# Altium footprint library Supernova Diodes.PcbLib: 50 footprints (part 4 of 4)
Each footprint in its own frame and in the unit in brackets; x right, y up, seen from the top. Pads: shape width x height; smd on the part's side, far side on the other; paste and mask are expansions set on the pad; w line width, h text height; cw(c..) or ccw(c..) is an arc to the next point about the centre after c.
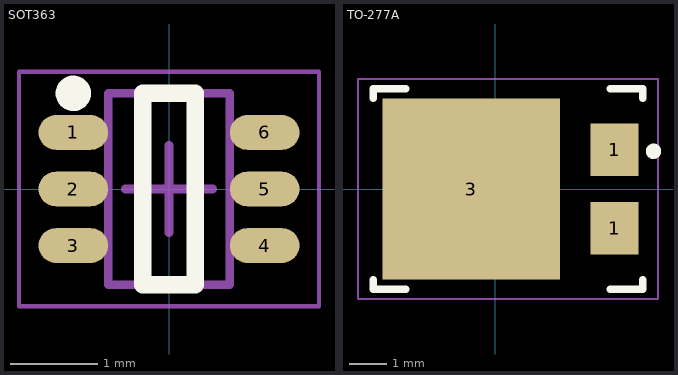
[diagram p3: the footprints below, top view; thin cyan lines are the x and y axes]

## SOT363 [mm] "TSOP, 6-Leads, Body 2.00x1.25mm, Pitch 0.65mm, IPC Medium Density"
height 1.1
pads (6):
  oval 0.8x0.4 smd mask+0.025: 1(-1.1,0.65) 2(-1.1,0) 3(-1.1,-0.65) 4(1.1,-0.65) 5(1.1,0) 6(1.1,0.65)
Top Overlay:
  circle w0.203: c-1.1,1.1 r0.102
  lines w0.2: -0.3,-1.1 0.3,-1.1 0.3,1.1 -0.3,1.1 -0.3,-1.1
Top 3D Body (Mech13):
  lines w0.1: -0.7,-1.1 0.7,-1.1 0.7,1.1 -0.7,1.1 -0.7,-1.1
Top Courtyard (Mech15):
  lines w0.05: -1.725,-1.35 1.725,-1.35 1.725,1.35 -1.725,1.35 -1.725,-1.35
  lines w0.1: -0.5,0 0.5,0 ; 0,-0.5 0,0.5
3D body: height 0.2, standoff 0, extent -1.325,-0.8 1.325,-0.5
3D body: height 0.2, standoff 0, extent -1.325,-0.15 1.325,0.15
3D body: height 0.2, standoff 0, extent -1.325,0.5 1.325,0.8
3D body: height 1.1, standoff 0, extent -0.7,-1.1 0.7,1.1

## TO-277A [mm]
pads (3):
  rect 1.27x1.4 smd paste-0.1: 1(3.17,-1.04) 1(3.17,1.04)
  rect 4.72x4.8 smd paste-3: 3(-0.635,0)
Top Overlay:
  circle w0.203: c4.2,1 r0.102
  lines w0.2: -3.235,-2.405 -3.235,-2.655 -2.37,-2.655 ; -3.235,2.405 -3.235,2.655 -2.37,2.655 ; 3.05,-2.655 3.915,-2.655 3.915,-2.405 ; 3.05,2.655 3.915,2.655 3.915,2.405
Top Paste:
  rectangle: -2.735,0.1 -0.735,2.1
  region: 1.465,2.1 -0.535,2.1 -0.535,0.1 1.465,0.1
  region: 1.465,-2.1 1.465,-0.1 -0.535,-0.1 -0.535,-2.1
  region: -0.735,-2.1 -0.735,-0.1 -2.735,-0.1 -2.735,-2.1
Top Courtyard (Mech15):
  lines w0.05: -3.64,-2.921 4.32,-2.921 4.32,2.921 -3.64,2.921 -3.64,-2.921
  lines w0.1: -0.5,0 0.5,0 ; 0,-0.5 0,0.5
3D body "User Library-TO-277A(SMPC).step": height 1.2, standoff 0, extent -2.9,-2.375 3.75,2.375